# EAGLE library part 691243300007 (library Eagle_WR-TBL Rising Cage Clamp (rev20a))
WR-TBL Serie 2433 - 3.81 mm Vertical Entry Modular w. Rising Cage Clamp KIND PROPERTIES Pitch 3.81 mm MATERIAL PROPERTIES Insulator Material PA6/66;​ PA66 Insulator Flammability Rating UL94 V-0 Insulator Color Green Contact Material Copper Alloy Contact Plating Nickel over Tin Terminal Screw Material Steel Terminal Screw Plating Zinc Wire Guard Material Copper Alloy GENERAL INFORMATION Operating Temperature -30 up to +120 °C Compliance Lead free / RoHS;​ ROHS & Reach ELECTRICAL PROPERTIES IR UL 10 A IR VDE 10 A Working Voltage [UL] 300 V (AC) Working Voltage [VDE] 130 V (AC) Withstanding Voltage [UL] 1600 V (AC) Withstanding Voltage [cULus] 1600 V (AC) Withstanding Voltage [VDE] 1250 V (AC) Contact Resistance [UL] 20 mΩ Contact Resistance [cULus] 20 mΩ Contact Resistance [VDE] 20 mΩ MECHANICAL PROPERTIES Wire Strip Length 6 (mm) Screw M2 CERTIFICATION cULus Approval E150931 UL Approval E150931 CAT. N°: CAP (3); E150931 CAT. N°: CPA (3) VDE Approval 40015434 VDE Approval 40015434 TYPE: CPA PACKAGING PROPERTIES Packaging Box <https://www.we-online.com/catalog/media/o60859v209%20Family_TBL_3_81_2433_VERTICAL_CABLE_ENTRY_W_RISING_CLAMP_6912433000XX.jpg> Details see: https://www.we-online.com/catalog/en/TBL_3_81_2433_VERTICAL_CABLE_ENTRY_W_RISING_CLAMP_6912433000XX/ Updated by Ella Wu 2019-11-21 2019(C) Wurth Elektronik
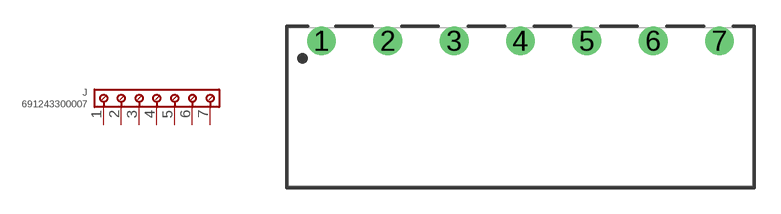
[diagram p30: symbol with the pads of 691243300007; footprint 691243300007]

Designator prefix J

## 691243300007 (DATASHEET-URL: https://www.we-online.com/catalog/datasheet/691243300007.pdf; IR-UL: 10A; IR-VDE: 10A; MOUNT: THT; PART-NUMBER: 691243300007; PINS: 7; PITCH: 3.81mm; TYPE: Vertical; WIRE: 30 to 16 (AWG) 0.05 to 1.31 (mm²); WORKING-VOLTAGE-UL: 300V (AC); WORKING-VOLTAGE-VDE: 130V (AC))  [691243300007]
1  1  pas
2  2  pas
3  3  pas
4  4  pas
5  5  pas
6  6  pas
7  7  pas

## Footprint 691243300007 (pad centres in mm)
WR-TBL Serie 2433 - 3.81 mm Vertical Entry Modular w. Rising Cage Clamp Max Height =7.3mm , Pitch 3.81mm , 7 Pins
drill 1.1: 1 -11.43,0; 2 -7.62,0; 3 -3.81,0; 4 0,0; 5 3.81,0; 6 7.62,0; 7 11.43,0